# EAGLE library part ATMEL_ATSAMD20J17A-AU (library Drone)
ATML-ATSAMD20J-TQFP-64
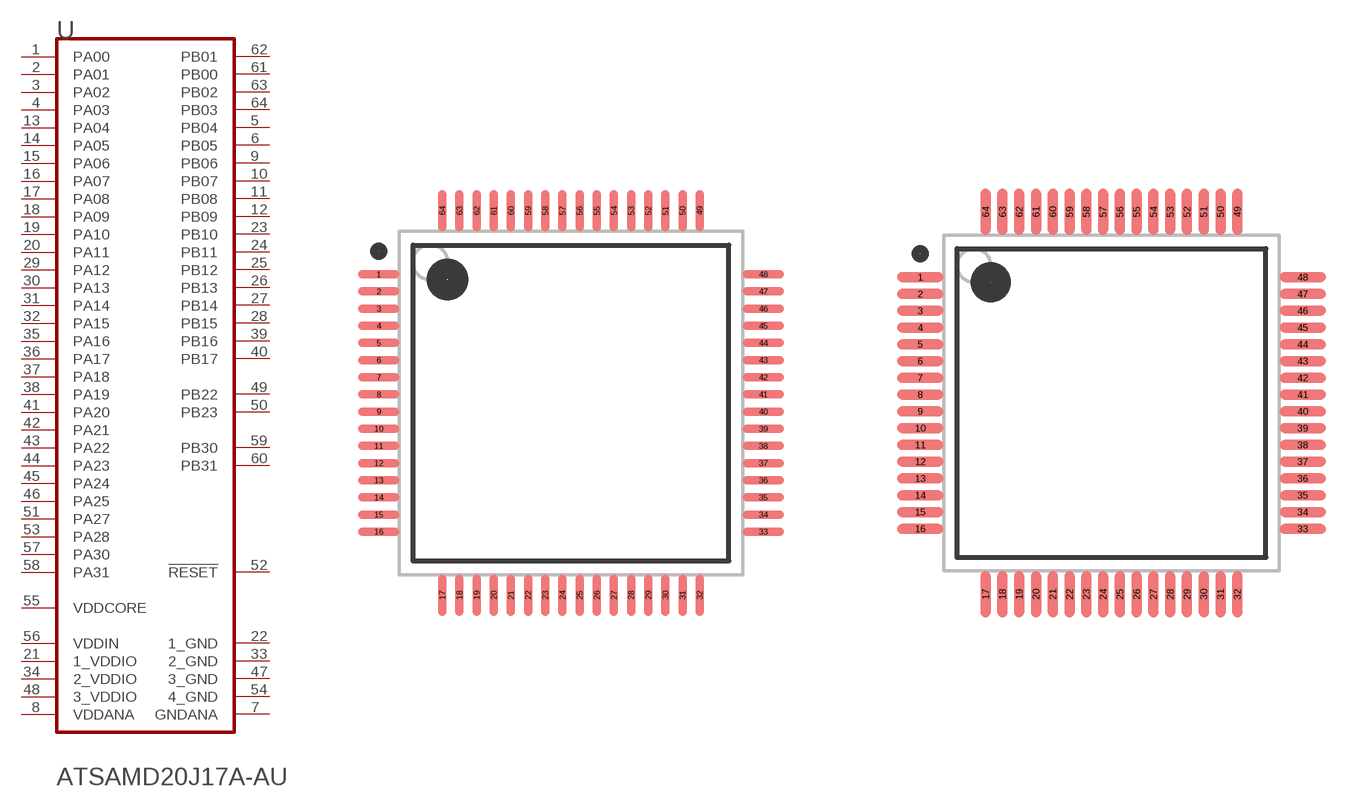
[diagram p0: symbol with the pads of ATMEL_ATSAMD20J17A-AU_0; footprints ATMEL_ATSAMD20J17A-AU_0, ATMEL_ATSAMD20J17A-AU_1]

Designator prefix U

## ATMEL_ATSAMD20J17A-AUATMEL_ATSAMD20J17A-AU_0_0 (CIIVA_IDS: 12547221; COMPONENT_LINK_1_DESCRIPTION: Manufacturer URL; COMPONENT_LINK_1_URL: http://www.atmel.com/; COMPONENT_LINK_3_DESCRIPTION: Package Specification; COMPONENT_LINK_3_URL: http://www.atmel.com/images/atmel-42129-sam-d20_datasheet.pdf; CPU_FREQUENCY: 48 MHz Max.; DATASHEET: http://www.atmel.com/images/atmel-42129-sam-d20_datasheet.pdf; DATASHEET_VERSION: Rev. N; FLASH_MEMORY_DENSITY: 128 KB; FOOTPRINT_VARIANT_NAME_0: Level C; FOOTPRINT_VARIANT_NAME_1: Level B; FOOTPRINT_VARIANT_NAME_2: Level A; GPIOS: 52; IMPORTED: yes; IMPORTED_FROM: vault; IMPORT_TS: 1521864266; MF: Atmel; MOUNTING_TECHNOLOGY: Surface Mount; MPN: ATSAMD20J17A-AU; PACKAGE_DESCRIPTION: 64-Pin Thin Quad Flat Package, Body 10 x 10 mm, Pitch 0.5 mm; PACKING: Tray; PREFIX: U; RELEASE_DATE: 1433216411; ROHS: Yes; SRAM: 16 KB; TEMPERATURE_RANGE: -40 to 85 degC; VAULT_GUID: 7D63B50C-1B09-490E-BEBA-7AAF9C40A39C; VAULT_REVISION: 941F293A-D347-464E-A457-C88536A4F078; VDD: 1.62 to 3.63 V)  [ATMEL_ATSAMD20J17A-AU_0]
1  PA00
2  PA01
3  PA02
4  PA03
5  PB04
6  PB05
7  GNDANA  pwr
8  VDDANA  pwr
9  PB06
10  PB07
11  PB08
12  PB09
13  PA04
14  PA05
15  PA06
16  PA07
17  PA08
18  PA09
19  PA10
20  PA11
21  1_VDDIO  pwr
22  1_GND  pwr
23  PB10
24  PB11
25  PB12
26  PB13
27  PB14
28  PB15
29  PA12
30  PA13
31  PA14
32  PA15
33  2_GND  pwr
34  2_VDDIO  pwr
35  PA16
36  PA17
37  PA18
38  PA19
39  PB16
40  PB17
41  PA20
42  PA21
43  PA22
44  PA23
45  PA24
46  PA25
47  3_GND  pwr
48  3_VDDIO  pwr
49  PB22
50  PB23
51  PA27
52  !RESET!  in
53  PA28
54  4_GND  pwr
55  VDDCORE  pwr
56  VDDIN  pwr
57  PA30
58  PA31
59  PB30
60  PB31
61  PB00
62  PB01
63  PB02
64  PB03

## ATMEL_ATSAMD20J17A-AUATMEL_ATSAMD20J17A-AU_0_1 (CIIVA_IDS: 12547221; COMPONENT_LINK_1_DESCRIPTION: Manufacturer URL; COMPONENT_LINK_1_URL: http://www.atmel.com/; COMPONENT_LINK_3_DESCRIPTION: Package Specification; COMPONENT_LINK_3_URL: http://www.atmel.com/images/atmel-42129-sam-d20_datasheet.pdf; CPU_FREQUENCY: 48 MHz Max.; DATASHEET: http://www.atmel.com/images/atmel-42129-sam-d20_datasheet.pdf; DATASHEET_VERSION: Rev. N; FLASH_MEMORY_DENSITY: 128 KB; FOOTPRINT_VARIANT_NAME_0: Level C; FOOTPRINT_VARIANT_NAME_1: Level B; FOOTPRINT_VARIANT_NAME_2: Level A; GPIOS: 52; IMPORTED: yes; IMPORTED_FROM: vault; IMPORT_TS: 1521864266; MF: Atmel; MOUNTING_TECHNOLOGY: Surface Mount; MPN: ATSAMD20J17A-AU; PACKAGE_DESCRIPTION: 64-Pin Thin Quad Flat Package, Body 10 x 10 mm, Pitch 0.5 mm; PACKING: Tray; PREFIX: U; RELEASE_DATE: 1433216411; ROHS: Yes; SRAM: 16 KB; TEMPERATURE_RANGE: -40 to 85 degC; VAULT_GUID: 7D63B50C-1B09-490E-BEBA-7AAF9C40A39C; VAULT_REVISION: 941F293A-D347-464E-A457-C88536A4F078; VDD: 1.62 to 3.63 V)  [ATMEL_ATSAMD20J17A-AU_1]
Pads as for ATMEL_ATSAMD20J17A-AU_0

## ATMEL_ATSAMD20J17A-AUATMEL_ATSAMD20J17A-AU_0_2 (CIIVA_IDS: 12547221; COMPONENT_LINK_1_DESCRIPTION: Manufacturer URL; COMPONENT_LINK_1_URL: http://www.atmel.com/; COMPONENT_LINK_3_DESCRIPTION: Package Specification; COMPONENT_LINK_3_URL: http://www.atmel.com/images/atmel-42129-sam-d20_datasheet.pdf; CPU_FREQUENCY: 48 MHz Max.; DATASHEET: http://www.atmel.com/images/atmel-42129-sam-d20_datasheet.pdf; DATASHEET_VERSION: Rev. N; FLASH_MEMORY_DENSITY: 128 KB; FOOTPRINT_VARIANT_NAME_0: Level C; FOOTPRINT_VARIANT_NAME_1: Level B; FOOTPRINT_VARIANT_NAME_2: Level A; GPIOS: 52; IMPORTED: yes; IMPORTED_FROM: vault; IMPORT_TS: 1521864266; MF: Atmel; MOUNTING_TECHNOLOGY: Surface Mount; MPN: ATSAMD20J17A-AU; PACKAGE_DESCRIPTION: 64-Pin Thin Quad Flat Package, Body 10 x 10 mm, Pitch 0.5 mm; PACKING: Tray; PREFIX: U; RELEASE_DATE: 1433216411; ROHS: Yes; SRAM: 16 KB; TEMPERATURE_RANGE: -40 to 85 degC; VAULT_GUID: 7D63B50C-1B09-490E-BEBA-7AAF9C40A39C; VAULT_REVISION: 941F293A-D347-464E-A457-C88536A4F078; VDD: 1.62 to 3.63 V)  [ATMEL_ATSAMD20J17A-AU_2]
Pads as for ATMEL_ATSAMD20J17A-AU_0

## Footprint ATMEL_ATSAMD20J17A-AU_0 (pad centres in mm)
ATML-ATSAMD20J-TQFP-64
smd 1.2 x 0.25: 1 -5.6,3.75; 2 -5.6,3.25; 3 -5.6,2.75; 4 -5.6,2.25; 5 -5.6,1.75; 6 -5.6,1.25; 7 -5.6,0.75; 8 -5.6,0.25; 9 -5.6,-0.25; 10 -5.6,-0.75; 11 -5.6,-1.25; 12 -5.6,-1.75; 13 -5.6,-2.25; 14 -5.6,-2.75; 15 -5.6,-3.25; 16 -5.6,-3.75; 33 5.6,-3.75; 34 5.6,-3.25; 35 5.6,-2.75; 36 5.6,-2.25; 37 5.6,-1.75; 38 5.6,-1.25; 39 5.6,-0.75; 40 5.6,-0.25; 41 5.6,0.25; 42 5.6,0.75; 43 5.6,1.25; 44 5.6,1.75; 45 5.6,2.25; 46 5.6,2.75; 47 5.6,3.25; 48 5.6,3.75
smd 0.25 x 1.2: 17 -3.75,-5.6; 18 -3.25,-5.6; 19 -2.75,-5.6; 20 -2.25,-5.6; 21 -1.75,-5.6; 22 -1.25,-5.6; 23 -0.75,-5.6; 24 -0.25,-5.6; 25 0.25,-5.6; 26 0.75,-5.6; 27 1.25,-5.6; 28 1.75,-5.6; 29 2.25,-5.6; 30 2.75,-5.6; 31 3.25,-5.6; 32 3.75,-5.6; 49 3.75,5.6; 50 3.25,5.6; 51 2.75,5.6; 52 2.25,5.6; 53 1.75,5.6; 54 1.25,5.6; 55 0.75,5.6; 56 0.25,5.6; 57 -0.25,5.6; 58 -0.75,5.6; 59 -1.25,5.6; 60 -1.75,5.6; 61 -2.25,5.6; 62 -2.75,5.6; 63 -3.25,5.6; 64 -3.75,5.6

## Footprint ATMEL_ATSAMD20J17A-AU_1 (pad centres in mm)
ATML-ATSAMD20J-TQFP-64
smd 1.4 x 0.3: 1 -5.7,3.75; 2 -5.7,3.25; 3 -5.7,2.75; 4 -5.7,2.25; 5 -5.7,1.75; 6 -5.7,1.25; 7 -5.7,0.75; 8 -5.7,0.25; 9 -5.7,-0.25; 10 -5.7,-0.75; 11 -5.7,-1.25; 12 -5.7,-1.75; 13 -5.7,-2.25; 14 -5.7,-2.75; 15 -5.7,-3.25; 16 -5.7,-3.75; 33 5.7,-3.75; 34 5.7,-3.25; 35 5.7,-2.75; 36 5.7,-2.25; 37 5.7,-1.75; 38 5.7,-1.25; 39 5.7,-0.75; 40 5.7,-0.25; 41 5.7,0.25; 42 5.7,0.75; 43 5.7,1.25; 44 5.7,1.75; 45 5.7,2.25; 46 5.7,2.75; 47 5.7,3.25; 48 5.7,3.75
smd 0.3 x 1.4: 17 -3.75,-5.7; 18 -3.25,-5.7; 19 -2.75,-5.7; 20 -2.25,-5.7; 21 -1.75,-5.7; 22 -1.25,-5.7; 23 -0.75,-5.7; 24 -0.25,-5.7; 25 0.25,-5.7; 26 0.75,-5.7; 27 1.25,-5.7; 28 1.75,-5.7; 29 2.25,-5.7; 30 2.75,-5.7; 31 3.25,-5.7; 32 3.75,-5.7; 49 3.75,5.7; 50 3.25,5.7; 51 2.75,5.7; 52 2.25,5.7; 53 1.75,5.7; 54 1.25,5.7; 55 0.75,5.7; 56 0.25,5.7; 57 -0.25,5.7; 58 -0.75,5.7; 59 -1.25,5.7; 60 -1.75,5.7; 61 -2.25,5.7; 62 -2.75,5.7; 63 -3.25,5.7; 64 -3.75,5.7

## Footprint ATMEL_ATSAMD20J17A-AU_2 (pad centres in mm)
ATML-ATSAMD20J-TQFP-64
smd 1.6 x 0.35: 1 -5.8,3.75; 2 -5.8,3.25; 3 -5.8,2.75; 4 -5.8,2.25; 5 -5.8,1.75; 6 -5.8,1.25; 7 -5.8,0.75; 8 -5.8,0.25; 9 -5.8,-0.25; 10 -5.8,-0.75; 11 -5.8,-1.25; 12 -5.8,-1.75; 13 -5.8,-2.25; 14 -5.8,-2.75; 15 -5.8,-3.25; 16 -5.8,-3.75; 33 5.8,-3.75; 34 5.8,-3.25; 35 5.8,-2.75; 36 5.8,-2.25; 37 5.8,-1.75; 38 5.8,-1.25; 39 5.8,-0.75; 40 5.8,-0.25; 41 5.8,0.25; 42 5.8,0.75; 43 5.8,1.25; 44 5.8,1.75; 45 5.8,2.25; 46 5.8,2.75; 47 5.8,3.25; 48 5.8,3.75
smd 0.35 x 1.6: 17 -3.75,-5.8; 18 -3.25,-5.8; 19 -2.75,-5.8; 20 -2.25,-5.8; 21 -1.75,-5.8; 22 -1.25,-5.8; 23 -0.75,-5.8; 24 -0.25,-5.8; 25 0.25,-5.8; 26 0.75,-5.8; 27 1.25,-5.8; 28 1.75,-5.8; 29 2.25,-5.8; 30 2.75,-5.8; 31 3.25,-5.8; 32 3.75,-5.8; 49 3.75,5.8; 50 3.25,5.8; 51 2.75,5.8; 52 2.25,5.8; 53 1.75,5.8; 54 1.25,5.8; 55 0.75,5.8; 56 0.25,5.8; 57 -0.25,5.8; 58 -0.75,5.8; 59 -1.25,5.8; 60 -1.75,5.8; 61 -2.25,5.8; 62 -2.75,5.8; 63 -3.25,5.8; 64 -3.75,5.8